# Altium footprint library BMP390.PcbLib: 1 footprints
Each footprint in its own frame and in the unit in brackets; x right, y up, seen from the top. Pads: shape width x height; smd on the part's side, far side on the other; paste and mask are expansions set on the pad; w line width, h text height; cw(c..) or ccw(c..) is an arc to the next point about the centre after c.
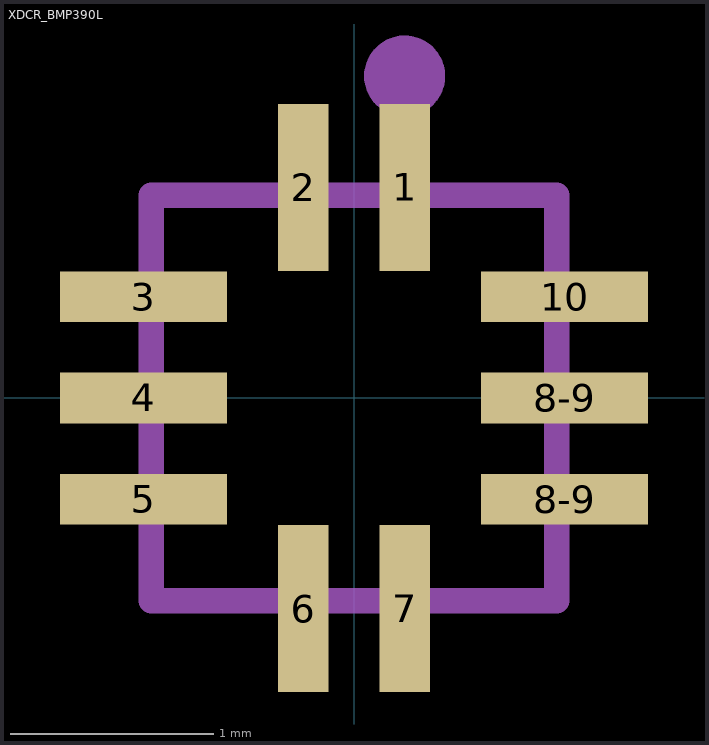
[diagram p0: the footprint, top view; thin cyan lines are the x and y axes]

## XDCR_BMP390L [mm]
height 0.8
pads (10):
  rect 0.25x0.825 smd: 1(0.25,1.038) 2(-0.25,1.038) 6(-0.25,-1.038) 7(0.25,-1.038)
  rect 0.825x0.25 smd: 3(-1.038,0.5) 4(-1.038,0) 5(-1.038,-0.5) 8-9(1.038,-0.5) 8-9(1.038,0) 10(1.038,0.5)
Mechanical 13:
  circle w0.2: c0.25,1.587 r0.1
  lines w0.127: -1,-1 -1,1 1,1 1,-1 -1,-1
3D body "BMP390L--3DModel-STEP-510211.STEP": height 0.81, standoff 0, extent -1,-1 1,1